# Altium footprint library TYPE-C-SMD_TYPE-C-31-M-16.PcbLib: 1 footprints
Each footprint in its own frame and in the unit in brackets; x right, y up, seen from the top. Pads: shape width x height; smd on the part's side, far side on the other; paste and mask are expansions set on the pad; w line width, h text height; cw(c..) or ccw(c..) is an arc to the next point about the centre after c.
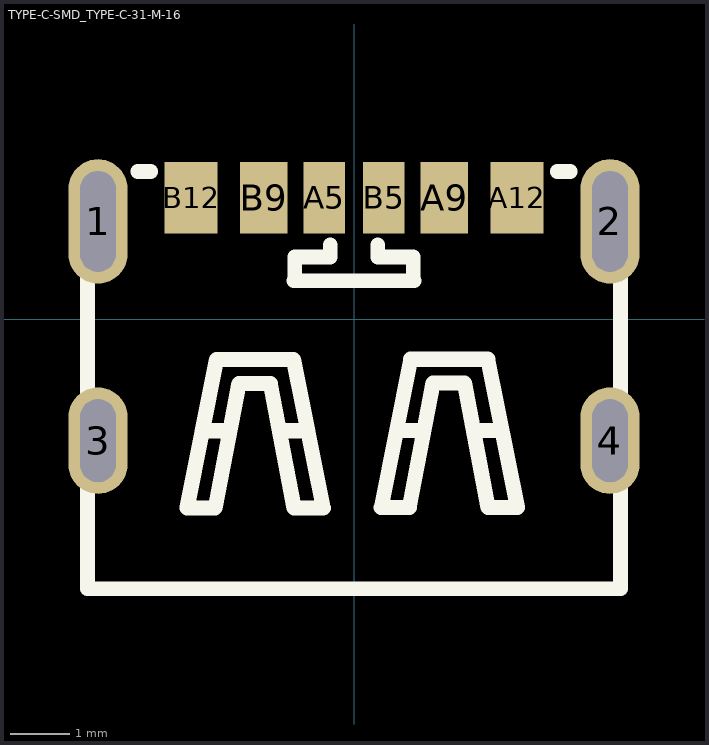
[diagram p0: the footprint, top view; thin cyan lines are the x and y axes]

## TYPE-C-SMD_TYPE-C-31-M-16 [mm]
pads (10):
  oval 1x2.1 hole 0.6 slot 1.7 at 90 deg: 1(-4.32,1.65) 2(4.32,1.65)
  oval 1x1.8 hole 0.6 slot 1.4 at 90 deg: 3(-4.32,-2.05) 4(4.32,-2.05)
  rect 0.7x1.2 smd: A5(-0.5,2.05) B5(0.5,2.05)
  rect 0.8x1.2 smd: A9(1.52,2.05) B9(-1.52,2.05)
  rect 0.9x1.2 smd: A12(2.75,2.05) B12(-2.75,2.05)
Top Overlay:
  lines w0.25: -4.5,-4.55 4.5,-4.55 ; -4.5,-4.5 -4.5,2.49 ; -3.651,2.49 -3.429,2.49 ; -1.01,0.65 1.01,0.65 ; -1,0.65 -1,1.05 -0.4,1.05 -0.4,1.25 ; 0.4,1.25 0.4,1.05 1,1.05 1,0.65 ; 3.429,2.49 3.651,2.49 ; 4.5,-4.5 4.5,2.49
  lines w0.254: -2.518,-1.883 -2.119,-1.883 ; -1.219,-1.882 -0.819,-1.882 ; 0.759,-1.878 1.158,-1.878 ; 2.058,-1.877 2.458,-1.877 ; -2.818,-3.183 -2.32,-0.681 -1.019,-0.681 -0.519,-3.183 -1.014,-3.183 -1.413,-1.083 -1.941,-1.083 -2.343,-3.183 -2.818,-3.183 ; 0.459,-3.178 0.957,-0.676 2.257,-0.676 2.758,-3.178 2.263,-3.178 1.864,-1.078 1.335,-1.078 0.934,-3.178 0.459,-3.178
Top Paste:
  drawing of 10 lines, arcs and shapes, not listed